# Altium schematic symbol library TXU0202DCUR.SchLib: 1 symbol
Pins are listed as number, name and electrical type; pins without a type are passive.

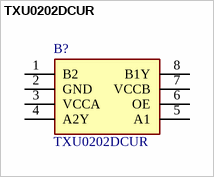
[diagram p0: symbol TXU0202DCUR]

## TXU0202DCUR
designator B?
Translation - Voltage Levels Two channel fixed-direction level shifter with channels in opposite direction; Manufacturer_Name: Texas Instruments; Geometry.Height: 0.9mm; Mouser Part Number: 595-TXU0202DCUR; Mouser Price/Stock: https://www.mouser.co.uk/ProductDetail/Texas-Instruments/TXU0202DCUR?qs=t7xnP681wgVssPLUozppFA%3D%3D; Manufacturer_Part_Number: TXU0202DCUR; Datasheet Link: https://www.ti.com/product/ja-jp/TXU0202
footprint SOP50P310X90-8N
pins: 1 B2, 2 GND, 3 VCCA (power), 4 A2Y, 5 A1, 6 OE, 7 VCCB (power), 8 B1Y